# Altium integrated library Q-Resistors.IntLib: 917 symbols (part 4 of 8)
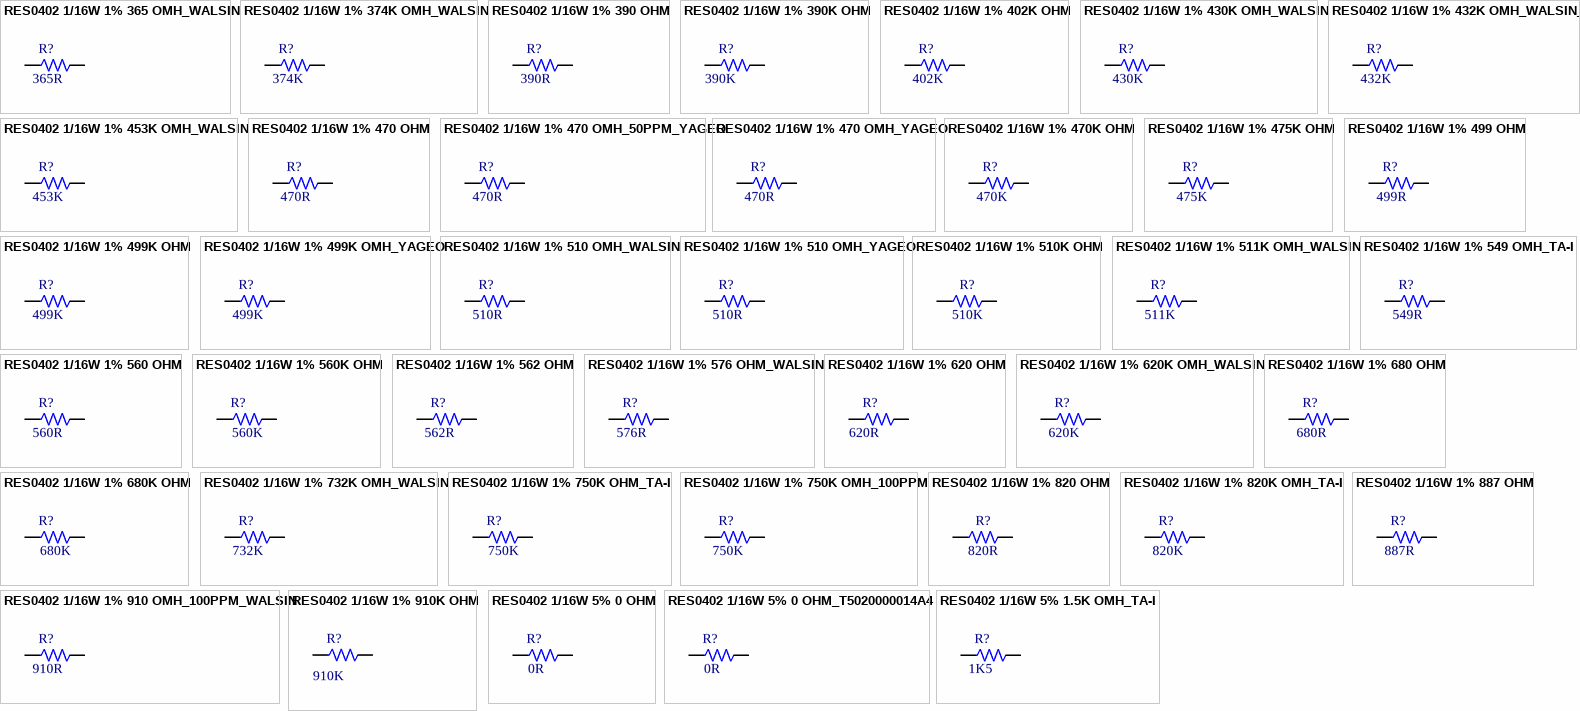
[diagram p25: symbols RES0402 1/16W 1% 365 OMH_WALSIN to RES0402 1/16W 5% 1.5K OMH_TA-I]

## RES0402 1/16W 1% 620K OMH_WALSIN
designator R?, comment value 620K  (hidden comment: T502620301399)
CHIP 620K OHM 100PPM +-1% 0402 WALS L; TOL: 1%; MFG: WALSIN (華新); Power: 1/16W; CREATE_NAME: Nathan; DIP&SMD: SMD; SAP: T502620301399; Package: 0402; MFG Part: *; Vendor Code: *; Vendor Name: *; Type: Resistor; CREATE_TIME: 25-May-2016; Customer Specific: N/A
footprint 0402-RW
pins: 1, 2

## RES0402 1/16W 1% 680 OHM
designator R?, comment value 680R  (hidden comment: QCF161240-6800)
CHIP RES  680 OHM 1/16W 1% 0402; SAP: T502680001399; CREATE_NAME: GordonL@Deftronics; DIP&SMD: SMD; Vendor Code: *; Power: 1/16W; Vendor Name: *; MFG Part: *; MFG: *; TOL: 1%; Type: Resistor; CREATE_TIME: 05-Jan-2013; PACKAGE: 0402; Customer Specific: N/A
footprint 0402-RW
pins: 1, 2

## RES0402 1/16W 1% 680K OHM
designator R?, comment value 680K  (hidden comment: QCF161240-6803)
CHIP RES 680K OHM 1% 1/16W 0402; SAP: T502680301399; CREATE_NAME: TOM@Deftronics; DIP&SMD: SMD; Package: 0402; TOL: 1%; MFG Part: *; MFG: *; Vendor Code: *; Vendor Name: *; Type: Resistor; Power: 1/16W; CREATE_TIME: 09-Jul-2014; Customer Specific: N/A
footprint 0402-RW
pins: 1, 2

## RES0402 1/16W 1% 732K OMH_WALSIN
designator R?, comment value 732K  (hidden comment: T502732301399)
CHIP 732K OHM 100PPM +-1% 0402 WALS L; MFG Part: WR04X7323FTL; TOL: 1%; MFG: WALSIN; Power: 1/16W; CREATE_NAME: Nathan; DIP&SMD: SMD; SAP: T502732301399; Package: 0402; Vendor Code: *; Vendor Name: *; Type: Resistor; CREATE_TIME: 17-Feb-2020; Customer Specific: N/A
footprint 0402-RW
pins: 1, 2

## RES0402 1/16W 1% 750K OHM_TA-I
designator R?, comment value 750K  (hidden comment: T502750301394)
CHIP 750K OHM  100PPM +-1% 0402 TA-I L; Power: 1/16W; MFG: TA-I (大毅); TOL: 1%; CREATE_NAME: Cherry; DIP&SMD: SMD; Vendor Code: *; SAP: T502750301394; Vendor Name: *; MFG Part: N/A; Type: Resistor; PACKAGE: 0402; CREATE_TIME: 24-Feb-2016; Customer Specific: N/A
footprint 0402-RW
pins: 1, 2

## RES0402 1/16W 1% 750K OMH_100PPM
designator R?, comment value 750K  (hidden comment: T502750301399)
CHIP 750K OHM 100PPM +-1% 0402 WALS L; TOL: 1%; MFG: WALSIN; Power: 1/16W; CREATE_NAME: Tom; DIP&SMD: SMD; SAP: T502750301399; Package: 0402; MFG Part: *; Vendor Code: *; Vendor Name: *; Type: Resistor; CREATE_TIME: 05-Dec-2016; Customer Specific: N/A
footprint 0402-RW
pins: 1, 2

## RES0402 1/16W 1% 820 OHM
designator R?, comment value 820R  (hidden comment: QCF161240-8200)
CHIP RES 820 OHM 1% 1/16W 0402; SAP: T502820001399; CREATE_NAME: Evan@Deftronics; DIP&SMD: SMD; Package: 0402; TOL: 1%; MFG Part: *; MFG: *; Vendor Code: *; Vendor Name: *; Type: Resistor; Power: 1/16W; CREATE_TIME: 02-Jun-2014; Customer Specific: N/A
footprint 0402-RW
pins: 1, 2

## RES0402 1/16W 1% 820K OMH_TA-I
designator R?, comment value 820K  (hidden comment: T502820301394)
CHIP 820K OHM 100PPM +-1% 0402 TA-I L; TOL: 1%; MFG: TA-I (大毅); Power: 1/16W; CREATE_NAME: Nathan; DIP&SMD: SMD; SAP: T502820301394; Package: 0402; MFG Part: *; Vendor Code: *; Vendor Name: *; Type: Resistor; CREATE_TIME: 25-May-2016; Customer Specific: N/A
footprint 0402-RW
pins: 1, 2

## RES0402 1/16W 1% 887 OHM
designator R?, comment value 887R  (hidden comment: QCF161240-8870)
CHIP RES. 887 OHM 1% 1/16W 0402; SAP: T502887001399; CREATE_NAME: GordonL@Deftronics; DIP&SMD: SMD; Vendor Code: *; Power: 1/16W; Vendor Name: *; MFG Part: *; MFG: *; TOL: 1%; Type: Resistor; CREATE_TIME: 05-Jan-2013; PACKAGE: 0402; Customer Specific: N/A
footprint 0402-RW
pins: 1, 2

## RES0402 1/16W 1% 910 OMH_100PPM_WALSIN
designator R?, comment value 910R  (hidden comment: T502910001399)
CHIP 910 OHM 100PPM +-1% 0402 WALS L; MFG Part: WR04X9100FTL; TOL: 1%; MFG: WALSIN (華新); Power: 1/16W; CREATE_NAME: Nathan; DIP&SMD: SMD; SAP: T502910001399; Package: 0402; Vendor Code: *; Vendor Name: *; Type: Resistor; CREATE_TIME: 16-Nov-2017; Customer Specific: N/A
footprint 0402-RW
pins: 1, 2

## RES0402 1/16W 1% 910K OHM
designator R?, comment value 910K  (hidden comment: T502910301399)
CHIP 910K OHM 100PPM +-1% 0402 WALS L; Power: 1/16W; MFG: WALSIN (華新); TOL: 1%; CREATE_NAME: Nathan; DIP&SMD: SMD; Vendor Code: *; SAP: T502910301399; Vendor Name: *; MFG Part: *; Type: Resistor; CREATE_TIME: 31-Oct-2017; PACKAGE: 0402; Customer Specific: N/A
footprint 0402-RW
pins: 1, 2

## RES0402 1/16W 5% 0 OHM
designator R?, comment value 0R  (hidden comment: QCF165240-0000)
CHIP RES 0 OMH 1/16W 5% 0402; SAP: T5020000014A9; MFG: WALSIN; DIP&SMD: SMD; Vendor Code: *; Power: 1/16W; Vendor Name: *; MFG Part: *; TOL: 5%; Type: Resistor; PACKAGE: 0402; Customer Specific: N/A
footprint 0402-RW
pins: 1, 2

## RES0402 1/16W 5% 0 OHM_T5020000014A4
designator R?, comment value 0R  (hidden comment: T5020000014A4)
CHIP 0 OHM 200PPM +-5% 0402 TA-I L; Power: 1/16W; MFG: TA-I (大毅/祥泰); TOL: 5%; CREATE_NAME: Cherry; DIP&SMD: SMD; Vendor Code: *; SAP: T5020000014A4; Vendor Name: *; MFG Part: *; Type: Resistor; PACKAGE: 0402; CREATE_TIME: 23-Feb-2016; Customer Specific: N/A
footprint 0402-RW
pins: 1, 2

## RES0402 1/16W 5% 1.5K OMH_TA-I
designator R?, comment value 1K5  (hidden comment: T5020152014A4)
CHIP 1.5K OHM 200PPM +-5% 0402 TA-I L; TOL: 5%; MFG: TA-I (大毅); Power: 1/16W; CREATE_NAME: Nathan; DIP&SMD: SMD; SAP: T5020152014A4; Package: 0402; MFG Part: *; Vendor Code: *; Vendor Name: *; Type: Resistor; CREATE_TIME: 25-May-2016; Customer Specific: N/A
footprint 0402-RW
pins: 1, 2

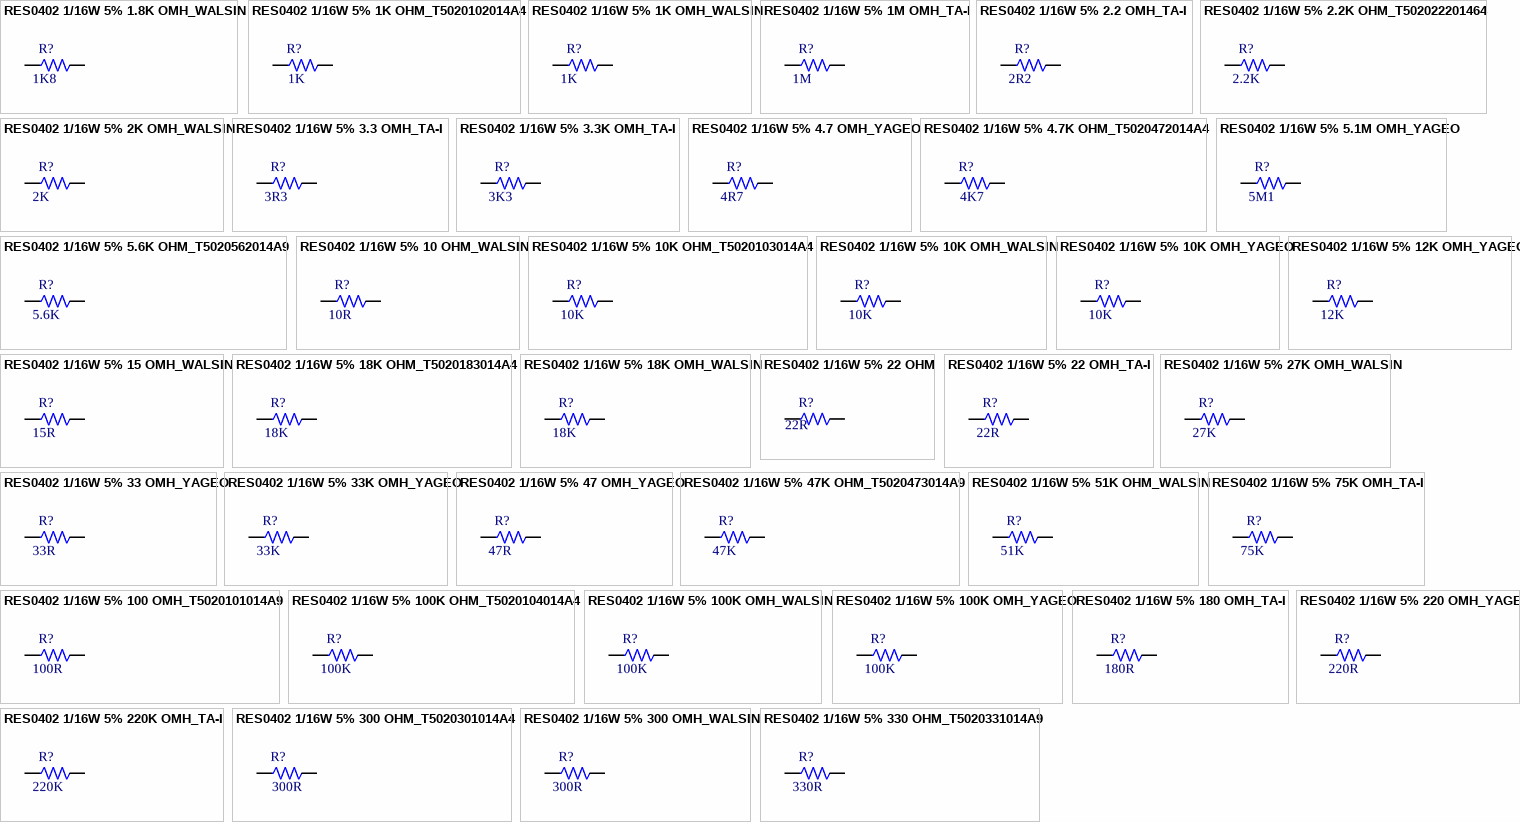
[diagram p10: symbols RES0402 1/16W 5% 1.8K OMH_WALSIN to RES0402 1/16W 5% 330 OHM_T5020331014A9]

## RES0402 1/16W 5% 1.8K OMH_WALSIN
designator R?, comment value 1K8  (hidden comment: T502018201499)
CHIP 1.8K OHM  100PPM +-5% 0402 WALS L; TOL: 5%; MFG: WALSIN (華新); Power: 1/16W; CREATE_NAME: Nathan; DIP&SMD: SMD; SAP: T502018201499; Package: 0402; MFG Part: *; Vendor Code: *; Vendor Name: *; Type: Resistor; CREATE_TIME: 25-May-2016; Customer Specific: N/A
footprint 0402-RW
pins: 1, 2

## RES0402 1/16W 5% 1K OHM_T5020102014A4
designator R?, comment value 1K  (hidden comment: T5020102014A4)
CHIP 1K OHM 200PPM +-5% 0402 TA-I L; Power: 1/16W; MFG: TA-I (大毅/祥泰); TOL: 5%; CREATE_NAME: Cherry; DIP&SMD: SMD; Vendor Code: *; SAP: T5020102014A4; Vendor Name: *; MFG Part: N/A; Type: Resistor; PACKAGE: 0402; CREATE_TIME: 23-Feb-2016; Customer Specific: N/A
footprint 0402-RW
pins: 1, 2

## RES0402 1/16W 5% 1K OMH_WALSIN
designator R?, comment value 1K  (hidden comment: T5020102014A9)
CHIP 1K OHM 200PPM +-5% 0402 WALS L; TOL: 5%; MFG: WALSIN (華新); Power: 1/16W; CREATE_NAME: Nathan; DIP&SMD: SMD; SAP: T5020102014A9; Package: 0402; MFG Part: *; Vendor Code: *; Vendor Name: *; Type: Resistor; CREATE_TIME: 27-Sep-2017; Customer Specific: N/A
footprint 0402-RW
pins: 1, 2

## RES0402 1/16W 5% 1M OMH_TA-I
designator R?, comment value 1M  (hidden comment: T5020105014A4)
CHIP 1M OHM 200PPM +-5% 0402 TA-I L; TOL: 5%; MFG: TA-I (大毅); Power: 1/16W; CREATE_NAME: Nathan; DIP&SMD: SMD; SAP: T5020105014A4; Package: 0402; MFG Part: *; Vendor Code: *; Vendor Name: *; Type: Resistor; CREATE_TIME: 25-May-2016; Customer Specific: N/A
footprint 0402-RW
pins: 1, 2

## RES0402 1/16W 5% 2.2 OMH_TA-I
designator R?, comment value 2R2  (hidden comment: T502022A014A4)
CHIP 2.2 OHM   200PPM +-5% 0402 TA-I L; TOL: 5%; MFG: TA-I (大毅); Power: 1/16W; CREATE_NAME: Nathan; DIP&SMD: SMD; SAP: T502022A014A4; Package: 0402; MFG Part: *; Vendor Code: *; Vendor Name: *; Type: Resistor; CREATE_TIME: 25-May-2016; Customer Specific: N/A
footprint 0402-RW
pins: 1, 2

## RES0402 1/16W 5% 2.2K OHM_T502022201464
designator R?, comment value 2.2K  (hidden comment: T502022201464)
CHIP 2.2K OHM 250PPM +-5% 0402 TA-I L; MFG Part: RM04JTN222; TOL: 5%; Power: 1/16W; CREATE_NAME: Tom; DIP&SMD: SMD; SAP: T502022201464; Package: 0402; MFG: TA-I; Vendor Code: *; Vendor Name: *; Type: Resistor; CREATE_TIME: 12-Apr-2019; Customer Specific: N/A
footprint 0402-RW
pins: 1, 2

## RES0402 1/16W 5% 2K OMH_WALSIN
designator R?, comment value 2K  (hidden comment: T5020202014A9)
CHIP 2K OHM 200PPM +-5% 0402 WALS L; MFG Part: WR04X202 JTL; TOL: 5%; MFG: WALSIN; Power: 1/16W; CREATE_NAME: Nathan; DIP&SMD: SMD; SAP: T5020202014A9; Package: 0402; Vendor Code: *; Vendor Name: *; Type: Resistor; CREATE_TIME: 08-Jan-2018; Customer Specific: N/A
footprint 0402-RW
pins: 1, 2

## RES0402 1/16W 5% 3.3 OMH_TA-I
designator R?, comment value 3R3  (hidden comment: T502033A014A4)
CHIP 3.3 OHM   200PPM +-5% 0402 TA-I L; TOL: 5%; MFG: TA-I (大毅); Power: 1/16W; CREATE_NAME: Nathan; DIP&SMD: SMD; SAP: T502033A014A4; Package: 0402; MFG Part: *; Vendor Code: *; Vendor Name: *; Type: Resistor; CREATE_TIME: 25-May-2016; Customer Specific: N/A
footprint 0402-RW
pins: 1, 2

## RES0402 1/16W 5% 3.3K OMH_TA-I
designator R?, comment value 3K3  (hidden comment: T5020332014A4)
CHIP 3.3K OHM 200PPM +-5% 0402 TA-I L; TOL: 5%; MFG: TA-I (大毅); Power: 1/16W; CREATE_NAME: Nathan; DIP&SMD: SMD; SAP: T5020332014A4; Package: 0402; MFG Part: *; Vendor Code: *; Vendor Name: *; Type: Resistor; CREATE_TIME: 25-May-2016; Customer Specific: N/A
footprint 0402-RW
pins: 1, 2

## RES0402 1/16W 5% 4.7 OMH_YAGEO
designator R?, comment value 4R7  (hidden comment: T502047A014A1)
CHIP 4.7 OHM   200PPM +-5% 0402 YAGE L; TOL: 5%; MFG: YAGEO (國巨); Power: 1/16W; CREATE_NAME: Nathan; DIP&SMD: SMD; Customer Specific: Q Project; SAP: T502047A014A1; Package: 0402; MFG Part: *; Vendor Code: *; Vendor Name: *; Type: Resistor; CREATE_TIME: 23-May-2016
footprint 0402-RW
pins: 1, 2

## RES0402 1/16W 5% 4.7K OHM_T5020472014A4
designator R?, comment value 4K7  (hidden comment: T5020472014A4)
CHIP 4.7K OHM 200PPM +-5% 0402 TA-I L; Power: 1/16W; MFG: TA-I (大毅/祥泰); TOL: 5%; CREATE_NAME: Cherry; DIP&SMD: SMD; Vendor Code: *; SAP: T5020472014A4; Vendor Name: *; MFG Part: N/A; Type: Resistor; PACKAGE: 0402; CREATE_TIME: 24-Feb-2016; Customer Specific: N/A
footprint 0402-RW
pins: 1, 2

## RES0402 1/16W 5% 5.1M OMH_YAGEO
designator R?  value 5M1  (hidden comment: *)
CHIP 5.1M OHM    100PPM +-5% 0402 YAGE L; MFG Part: RC0402JR-075M1L; TOL: 5%; MFG: YAGEO (國巨); Power: 1/16W; CREATE_NAME: Nathan; DIP&SMD: SMD; SAP: *; Package: 0402; Vendor Code: *; Vendor Name: *; Type: Resistor; CREATE_TIME: 13-Oct-2020; Customer Specific: N/A
footprint 0402-RW
pins: 1, 2

## RES0402 1/16W 5% 5.6K OHM_T5020562014A9
designator R?, comment value 5.6K  (hidden comment: T5020562014A9)
CHIP 5.6K OHM 200PPM +-5% 0402 WALS L; MFG Part: WR04X562 JTR; TOL: 5%; MFG: WALSIN; Power: 1/16W; CREATE_NAME: Tom; DIP&SMD: SMD; SAP: T5020562014A9; Package: 0402; Vendor Code: *; Vendor Name: *; Type: Resistor; CREATE_TIME: 12-Apr-2019; Customer Specific: N/A
footprint 0402-RW
pins: 1, 2

## RES0402 1/16W 5% 10 OHM_WALSIN
designator R?, comment value 10R  (hidden comment: T5020100014A9)
CHIP 10 OHM    200PPM +-5% 0402 WALS L; MFG Part: WR04X100JAL; Power: 1/16W; MFG: WALSIN; TOL: 5%; CREATE_NAME: Nathan; DIP&SMD: SMD; Vendor Code: *; SAP: T5020100014A9; Vendor Name: *; Type: Resistor; PACKAGE: 0402; CREATE_TIME: 08-Jan-2018; Customer Specific: N/A
footprint 0402-RW
pins: 1, 2

## RES0402 1/16W 5% 10K OHM_T5020103014A4
designator R?, comment value 10K  (hidden comment: T5020103014A4)
CHIP 10K OHM 200PPM +-5% 0402 TA-I L; Power: 1/16W; MFG: TA-I (大毅/祥泰); TOL: 5%; CREATE_NAME: Cherry; DIP&SMD: SMD; Vendor Code: *; SAP: T5020103014A4; Vendor Name: *; MFG Part: N/A; Type: Resistor; PACKAGE: 0402; CREATE_TIME: 23-Feb-2016; Customer Specific: N/A
footprint 0402-RW
pins: 1, 2

## RES0402 1/16W 5% 10K OMH_WALSIN
designator R?, comment value 10K  (hidden comment: T5020103014A9)
CHIP 10K OHM   200PPM +-5% 0402 WALS L; TOL: 5%; MFG: WALSIN (華新); Power: 1/16W; CREATE_NAME: Nathan; DIP&SMD: SMD; SAP: T5020103014A9; Package: 0402; MFG Part: *; Vendor Code: *; Vendor Name: *; Type: Resistor; CREATE_TIME: 17-Aug-2017; Customer Specific: N/A
footprint 0402-RW
pins: 1, 2

## RES0402 1/16W 5% 10K OMH_YAGEO
designator R?, comment value 10K  (hidden comment: T5020103014A1)
CHIP 10K OHM   100PPM +-5% 0402 YAGE L; TOL: 5%; MFG: YAGEO (國巨); Power: 1/16W; CREATE_NAME: Nathan; DIP&SMD: SMD; SAP: T5020103014A1; Package: 0402; MFG Part: *; Vendor Code: *; Vendor Name: *; Type: Resistor; CREATE_TIME: 23-May-2016; Customer Specific: N/A
footprint 0402-RW
pins: 1, 2

## RES0402 1/16W 5% 12K OMH_YAGEO
designator R?, comment value 12K  (hidden comment: T502012301491)
CHIP 12K OHM   100PPM +-5% 0402 YAGE L; TOL: 5%; MFG: YAGEO (國巨); Power: 1/16W; CREATE_NAME: Nathan; DIP&SMD: SMD; SAP: T502012301491; Package: 0402; MFG Part: *; Vendor Code: *; Vendor Name: *; Type: Resistor; CREATE_TIME: 23-May-2016; Customer Specific: N/A
footprint 0402-RW
pins: 1, 2

## RES0402 1/16W 5% 15 OMH_WALSIN
designator R?, comment value 15R  (hidden comment: T502015001499)
CHIP 15 OHM    100PPM +-5% 0402 WALS L; TOL: 5%; MFG: WALSIN (華新); Power: 1/16W; CREATE_NAME: Nathan; DIP&SMD: SMD; SAP: T502015001499; Package: 0402; MFG Part: *; Vendor Code: *; Vendor Name: *; Type: Resistor; CREATE_TIME: 25-May-2016; Customer Specific: N/A
footprint 0402-RW
pins: 1, 2

## RES0402 1/16W 5% 18K OHM_T5020183014A4
designator R?, comment value 18K  (hidden comment: T5020183014A4)
CHIP 18K OHM 200PPM +-5% 0402 TA-I L; MFG Part: RM04JTN183; TOL: 5%; Power: 1/16W; CREATE_NAME: Tom; DIP&SMD: SMD; SAP: T5020183014A4; Package: 0402; MFG: TA-I; Vendor Code: *; Vendor Name: *; Type: Resistor; CREATE_TIME: 12-Apr-2019; Customer Specific: N/A
footprint 0402-RW
pins: 1, 2

## RES0402 1/16W 5% 18K OMH_WALSIN
designator R?, comment value 18K  (hidden comment: T502018301499)
CHIP 18K OHM   100PPM +-5% 0402 WALS L; TOL: 5%; MFG: WALSIN (華新); Power: 1/16W; CREATE_NAME: Nathan; DIP&SMD: SMD; SAP: T502018301499; Package: 0402; MFG Part: *; Vendor Code: *; Vendor Name: *; Type: Resistor; CREATE_TIME: 25-May-2016; Customer Specific: N/A
footprint 0402-RW
pins: 1, 2

## RES0402 1/16W 5% 22 OHM
designator R?, comment value 22R  (hidden comment: T502022001499)
CHIP 22 OHM  200PPM +-5% 0402 WALS L; MFG Part: WR04X220JTL; Power: 1/16W; MFG: WALSIN; TOL: 5%; CREATE_NAME: Nathan; DIP&SMD: SMD; Vendor Code: *; SAP: T502022001499; Vendor Name: *; Type: Resistor; PACKAGE: 0402; CREATE_TIME: 18-Aug-2017; Customer Specific: N/A
footprint 0402-RW
pins: 1, 2

## RES0402 1/16W 5% 22 OMH_TA-I
designator R?, comment value 22R  (hidden comment: T5020220014A4)
CHIP 22 OHM 200PPM +-5% 0402 TA-I L; TOL: 5%; MFG: TA-I (大毅); Power: 1/16W; CREATE_NAME: Nathan; DIP&SMD: SMD; SAP: T5020220014A4; Package: 0402; MFG Part: *; Vendor Code: *; Vendor Name: *; Type: Resistor; CREATE_TIME: 25-May-2016; Customer Specific: N/A
footprint 0402-RW
pins: 1, 2

## RES0402 1/16W 5% 27K OMH_WALSIN
designator R?, comment value 27K  (hidden comment: T502027301499)
CHIP 27K OHM   100PPM +-5% 0402 WALS L; TOL: 5%; MFG: WALSIN (華新); Power: 1/16W; CREATE_NAME: Nathan; DIP&SMD: SMD; SAP: T502027301499; Package: 0402; MFG Part: *; Vendor Code: *; Vendor Name: *; Type: Resistor; CREATE_TIME: 25-May-2016; Customer Specific: N/A
footprint 0402-RW
pins: 1, 2

## RES0402 1/16W 5% 33 OMH_YAGEO
designator R?, comment value 33R  (hidden comment: T5020330014A1)
CHIP 33 OHM    200PPM +-5% 0402 YAGE L; TOL: 5%; MFG: YAGEO (國巨); Power: 1/16W; CREATE_NAME: Nathan; DIP&SMD: SMD; SAP: T5020330014A1; Package: 0402; MFG Part: *; Vendor Code: *; Vendor Name: *; Type: Resistor; CREATE_TIME: 23-May-2016; Customer Specific: N/A
footprint 0402-RW
pins: 1, 2

## RES0402 1/16W 5% 33K OMH_YAGEO
designator R?, comment value 33K  (hidden comment: T5020333014A1)
CHIP 33K OHM   200PPM +-5% 0402 YAGE L; TOL: 5%; MFG: YAGEO (國巨); Power: 1/16W; CREATE_NAME: Nathan; DIP&SMD: SMD; SAP: T5020333014A1; Package: 0402; MFG Part: *; Vendor Code: *; Vendor Name: *; Type: Resistor; CREATE_TIME: 23-May-2016; Customer Specific: N/A
footprint 0402-RW
pins: 1, 2

## RES0402 1/16W 5% 47 OMH_YAGEO
designator R?, comment value 47R  (hidden comment: T5020470014A1)
CHIP 47 OHM    200PPM +-5% 0402 YAGE L; TOL: 5%; MFG: YAGEO (國巨); Power: 1/16W; CREATE_NAME: Nathan; DIP&SMD: SMD; SAP: T5020470014A1; Package: 0402; MFG Part: *; Vendor Code: *; Vendor Name: *; Type: Resistor; CREATE_TIME: 23-May-2016; Customer Specific: N/A
footprint 0402-RW
pins: 1, 2

## RES0402 1/16W 5% 47K OHM_T5020473014A9
designator R?, comment value 47K  (hidden comment: T5020473014A9)
CHIP 47K OHM 200PPM +-5% 0402 WALS L; MFG Part: WR04X473 JTL; TOL: 5%; MFG: TA-I; Power: 1/16W; CREATE_NAME: Tom; DIP&SMD: SMD; SAP: T5020473014A9; Package: 0402; Vendor Code: *; Vendor Name: *; Type: Resistor; CREATE_TIME: 12-Apr-2019; Customer Specific: N/A
footprint 0402-RW
pins: 1, 2

## RES0402 1/16W 5% 51K OHM_WALSIN
designator R?, comment value 51K  (hidden comment: T502051301499)
CHIP 51K OHM  100PPM +-5% 0402 WALS L; MFG Part: WR04X513 JTL; TOL: 5%; MFG: WALSIN (華新); Power: 1/16W; CREATE_NAME: Nathan; DIP&SMD: SMD; SAP: T502051301499; Package: 0402; Vendor Code: *; Vendor Name: *; Type: Resistor; CREATE_TIME: 25-Jun-2019; Customer Specific: N/A
footprint 0402-RW
pins: 1, 2

## RES0402 1/16W 5% 75K OMH_TA-I
designator R?, comment value 75K  (hidden comment: T5020753014A4)
CHIP 75K OHM   200PPM +-5% 0402 TA-I L; TOL: 5%; MFG: TA-I (大毅); Power: 1/16W; CREATE_NAME: Nathan; DIP&SMD: SMD; SAP: T5020753014A4; Package: 0402; MFG Part: *; Vendor Code: *; Vendor Name: *; Type: Resistor; CREATE_TIME: 25-May-2016; Customer Specific: N/A
footprint 0402-RW
pins: 1, 2

## RES0402 1/16W 5% 100 OMH_T5020101014A9
designator R?, comment value 100R  (hidden comment: T5020101014A9)
CHIP 100 OHM 200PPM +-5% 0402 WALS L; MFG Part: WR04X101 JTL; TOL: 5%; MFG: WALSIN; Power: 1/16W; CREATE_NAME: Tom; DIP&SMD: SMD; SAP: T5020101014A9; Package: 0402; Vendor Code: *; Vendor Name: *; Type: Resistor; CREATE_TIME: 12-Apr-2019; Customer Specific: N/A
footprint 0402-RW
pins: 1, 2

## RES0402 1/16W 5% 100K OHM_T5020104014A4
designator R?, comment value 100K  (hidden comment: T5020104014A4)
CHIP 100K OHM 200PPM +-5% 0402 TA-I L; MFG Part: RM04JTN104; TOL: 5%; Power: 1/16W; CREATE_NAME: Tom; DIP&SMD: SMD; SAP: T5020104014A4; Package: 0402; MFG: TA-I; Vendor Code: *; Vendor Name: *; Type: Resistor; CREATE_TIME: 12-Apr-2019; Customer Specific: N/A
footprint 0402-RW
pins: 1, 2

## RES0402 1/16W 5% 100K OMH_WALSIN
designator R?, comment value 100K  (hidden comment: T5020104014A9)
CHIP 100K OHM  200PPM +-5% 0402 WALS L; MFG Part: WR04X1003JAL; TOL: 5%; MFG: WALSIN; Power: 1/16W; CREATE_NAME: Nathan; DIP&SMD: SMD; SAP: T5020104014A9; Package: 0402; Vendor Code: *; Vendor Name: *; Type: Resistor; CREATE_TIME: 08-Jan-2018; Customer Specific: N/A
footprint 0402-RW
pins: 1, 2

## RES0402 1/16W 5% 100K OMH_YAGEO
designator R?, comment value 100K  (hidden comment: T5020104014A1)
CHIP 100K OHM  200PPM +-5% 0402 YAGE L; TOL: 5%; MFG: YAGEO (國巨); Power: 1/16W; CREATE_NAME: Nathan; DIP&SMD: SMD; SAP: T5020104014A1; Package: 0402; MFG Part: *; Vendor Code: *; Vendor Name: *; Type: Resistor; CREATE_TIME: 23-May-2016; Customer Specific: N/A
footprint 0402-RW
pins: 1, 2

## RES0402 1/16W 5% 180 OMH_TA-I
designator R?, comment value 180R  (hidden comment: T5020181014A4)
CHIP 180 OHM 200PPM +-5% 0402 TA-I L; TOL: 5%; MFG: TA-I (大毅); Power: 1/16W; CREATE_NAME: Nathan; DIP&SMD: SMD; SAP: T5020181014A4; Package: 0402; MFG Part: *; Vendor Code: *; Vendor Name: *; Type: Resistor; CREATE_TIME: 25-May-2016; Customer Specific: N/A
footprint 0402-RW
pins: 1, 2

## RES0402 1/16W 5% 220 OMH_YAGEO
designator R?, comment value 220R  (hidden comment: T502022101491)
CHIP 220 OHM   100PPM +-5% 0402 YAGE L; TOL: 5%; MFG: YAGEO (國巨); Power: 1/16W; CREATE_NAME: Nathan; DIP&SMD: SMD; SAP: T502022101491; Package: 0402; MFG Part: *; Vendor Code: *; Vendor Name: *; Type: Resistor; CREATE_TIME: 23-May-2016; Customer Specific: N/A
footprint 0402-RW
pins: 1, 2

## RES0402 1/16W 5% 220K OMH_TA-I
designator R?, comment value 220K  (hidden comment: T5020224014A4)
CHIP 220K OHM 200PPM +-5% 0402 TA-I L; TOL: 5%; MFG: TA-I (大毅); Power: 1/16W; CREATE_NAME: Nathan; DIP&SMD: SMD; SAP: T5020224014A4; Package: 0402; MFG Part: *; Vendor Code: *; Vendor Name: *; Type: Resistor; CREATE_TIME: 25-May-2016; Customer Specific: N/A
footprint 0402-RW
pins: 1, 2

## RES0402 1/16W 5% 300 OHM_T5020301014A4
designator R?, comment value 300R  (hidden comment: T5020301014A4)
CHIP 300 OHM 200PPM +-5% 0402 TA-I L; Power: 1/16W; MFG: TA-I (大毅/祥泰); TOL: 5%; CREATE_NAME: Cherry; DIP&SMD: SMD; Vendor Code: *; SAP: T5020301014A4; Vendor Name: *; MFG Part: N/A; Type: Resistor; PACKAGE: 0402; CREATE_TIME: 23-Feb-2016; Customer Specific: N/A
footprint 0402-RW
pins: 1, 2

## RES0402 1/16W 5% 300 OMH_WALSIN
designator R?, comment value 300R  (hidden comment: T502030101499)
CHIP 300 OHM   100PPM +-5% 0402 WALS L; TOL: 5%; MFG: WALSIN (華新); Power: 1/16W; CREATE_NAME: Nathan; DIP&SMD: SMD; SAP: T502030101499; Package: 0402; MFG Part: *; Vendor Code: *; Vendor Name: *; Type: Resistor; CREATE_TIME: 25-May-2016; Customer Specific: N/A
footprint 0402-RW
pins: 1, 2

## RES0402 1/16W 5% 330 OHM_T5020331014A9
designator R?, comment value 330R  (hidden comment: T5020331014A9)
CHIP 330 OHM 200PPM +-5% 0402 WALS L; MFG Part: WR04X331 JTL; TOL: 5%; MFG: TA-I; Power: 1/16W; CREATE_NAME: Tom; DIP&SMD: SMD; SAP: T5020331014A9; Package: 0402; Vendor Code: *; Vendor Name: *; Type: Resistor; CREATE_TIME: 12-Apr-2019; Customer Specific: N/A
footprint 0402-RW
pins: 1, 2

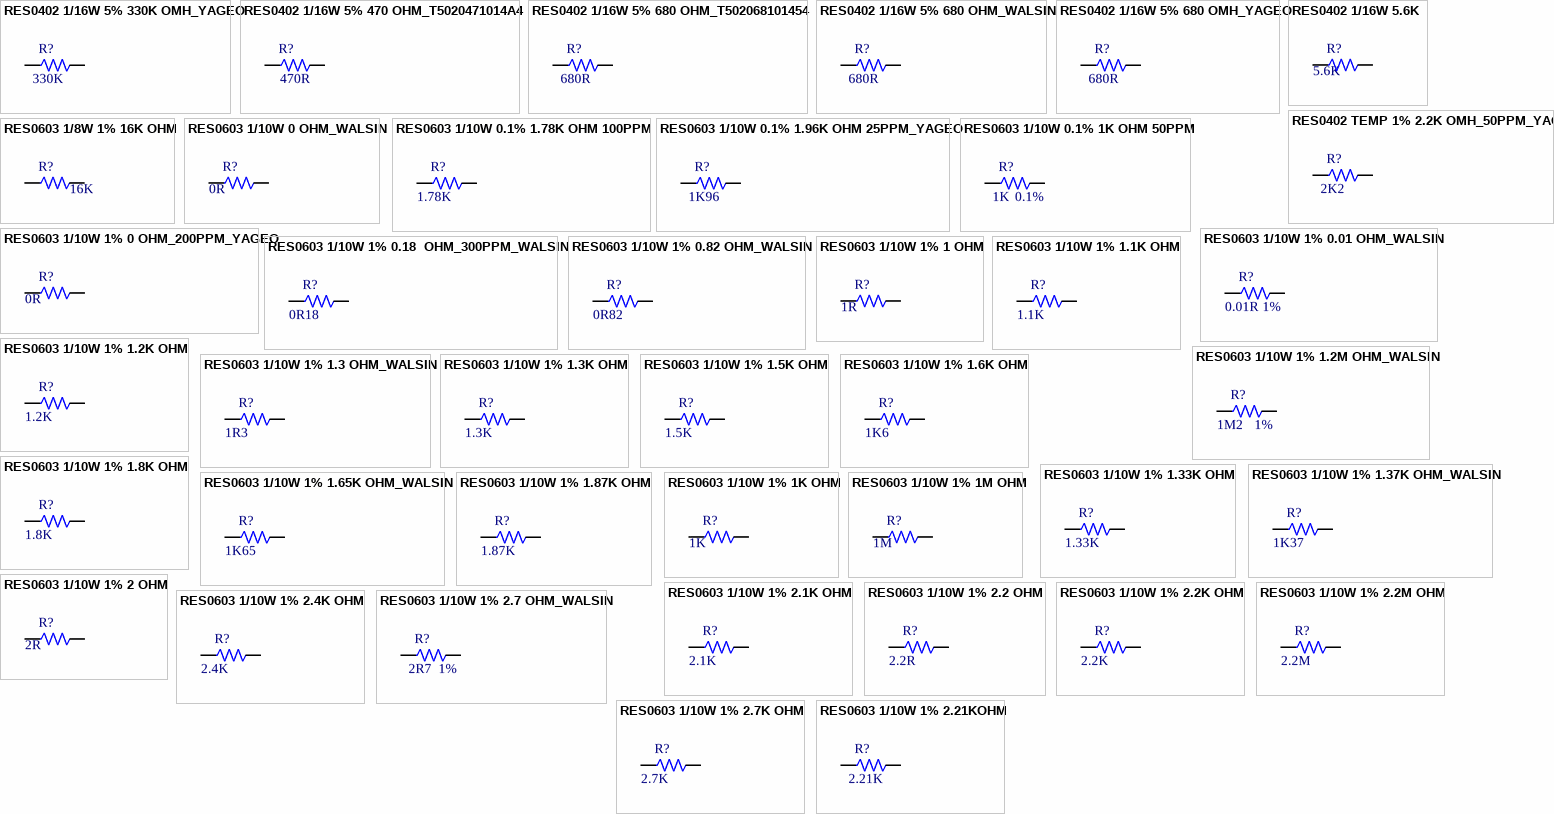
[diagram p11: symbols RES0402 1/16W 5% 330K OMH_YAGEO to RES0603 1/10W 1% 2.21KOHM]

## RES0402 1/16W 5% 330K OMH_YAGEO
designator R?, comment value 330K  (hidden comment: T5020334014A1)
CHIP 330K OHM  200PPM +-5% 0402 YAGE L; TOL: 5%; MFG: YAGEO (國巨); Power: 1/16W; CREATE_NAME: Nathan; DIP&SMD: SMD; SAP: T5020334014A1; Package: 0402; MFG Part: *; Vendor Code: *; Vendor Name: *; Type: Resistor; CREATE_TIME: 23-May-2016; Customer Specific: N/A
footprint 0402-RW
pins: 1, 2

## RES0402 1/16W 5% 470 OHM_T5020471014A4
designator R?, comment value 470R  (hidden comment: T5020471014A4)
CHIP 470 OHM   200PPM +-5% 0402 TA-I L; Power: 1/16W; MFG: TA-I (大毅); TOL: 5%; CREATE_NAME: Cherry; DIP&SMD: SMD; Vendor Code: *; SAP: T5020471014A4; Vendor Name: *; MFG Part: N/A; Type: Resistor; PACKAGE: 0402; CREATE_TIME: 24-Feb-2016; Customer Specific: N/A
footprint 0402-RW
pins: 1, 2

## RES0402 1/16W 5% 680 OHM_T502068101454
designator R?, comment value 680R  (hidden comment: T502068101454)
CHIP 680 OHM 300PPM +-5% 0402 TA-I L; MFG Part: RM04JTN681; TOL: 5%; Power: 1/16W; CREATE_NAME: Tom; DIP&SMD: SMD; SAP: T502068101454; Package: 0402; MFG: TA-I; Vendor Code: *; Vendor Name: *; Type: Resistor; CREATE_TIME: 12-Apr-2019; Customer Specific: N/A
footprint 0402-RW
pins: 1, 2

## RES0402 1/16W 5% 680 OHM_WALSIN
designator R?, comment value 680R  (hidden comment: T502068101499)
CHIP 680 OHM   100PPM +-5% 0402 WALS L; MFG Part: WR04X681JAL; Power: 1/16W; MFG: WALSIN (華新); TOL: 5%; CREATE_NAME: Nathan Han; DIP&SMD: SMD; Vendor Code: *; SAP: T502068101499; Vendor Name: *; Type: Resistor; PACKAGE: 0402; CREATE_TIME: 03-Jan-2018; Customer Specific: N/A
footprint 0402-RW
pins: 1, 2

## RES0402 1/16W 5% 680 OMH_YAGEO
designator R?, comment value 680R  (hidden comment: T502068101491)
CHIP 680 OHM   100PPM +-5% 0402 YAGE L; TOL: 5%; MFG: YAGEO (國巨); Power: 1/16W; CREATE_NAME: Nathan; DIP&SMD: SMD; SAP: T502068101491; Package: 0402; MFG Part: *; Vendor Code: *; Vendor Name: *; Type: Resistor; CREATE_TIME: 23-May-2016; Customer Specific: N/A
footprint 0402-RW
pins: 1, 2

## RES0402 1/16W 5.6K
designator R?, comment value 5.6K  (hidden comment: T502560101399)
CHIP RES 5.6K OHM 1/16W; CREATE_NAME: Tom; DIP&SMD: SMD; Vendor Code: *; SAP: T502560101399; Power: 1/16W; Vendor Name: *; MFG Part: *; MFG: *; TOL: *; Type: Resistor; CREATE_TIME: 09-Sep-2015; PACKAGE: 0402; Customer Specific: N/A
footprint 0402-RW
pins: 1, 2

## RES0402 TEMP 1% 2.2K OMH_50PPM_YAGEO
designator R?, comment value 2K2  (hidden comment: T501220101321)
TEMP-CHIP 2.2K OHM  50PPM +-1% 0402 YAGE; TOL: 1%; MFG: YAGEO (國巨); CREATE_NAME: Nathan; DIP&SMD: SMD; SAP: T501220101321; Package: 0402; MFG Part: *; Vendor Code: *; Vendor Name: *; Type: Resistor; Power: *; CREATE_TIME: 23-May-2016; Customer Specific: N/A
footprint 0402-RW
pins: 1, 2

## RES0603 1/8W 1% 16K OHM
designator R?, comment value 16K  (hidden comment: QCF011030-1602)
CHIP 16K OHM   100PPM +-1% 0603 WALSIN; SAP: T502160202399; TOL: 1%; Power: 1/8W; CREATE_NAME: Nathan; DIP&SMD: SMD; Package: 0603; MFG Part: *; MFG: WALSIN; Vendor Code: *; Vendor Name: *; Type: Resistor; CREATE_TIME: 24-Aug-2015; Customer Specific: N/A
footprint 0603-RW
footprint 0603-SW
pins: 1, 2

## RES0603 1/10W 0 OHM_WALSIN
designator R?, comment value 0R  (hidden comment: T502000002009)
CHIP 0 OHM 0 OHM 0 OHM 0603 WALSIN L; MFG Part: WR06X000PTL; Power: 1/10W; MFG: WALSIN (華新); DIP&SMD: SMD; Vendor Code: *; SAP: T502000002009; Vendor Name: *; TOL: *; Type: Resistor; PACKAGE: 0603; Customer Specific: N/A
footprint 0603-RW
footprint 0603-SW
pins: 1, 2

## RES0603 1/10W 0.1% 1.78K OHM 100PPM
designator R?, comment value 1.78K  (hidden comment: T501178102199)
CHIP 1.78K OHM 100PPM +-0.1% 0603 WALS L; MFG Part: WF06H1781BTL; Power: 1/10W; MFG: WALSIN; TOL: 0.1%; CREATE_NAME: Tom; DIP&SMD: SMD; Vendor Code: *; SAP: T501178102199; Vendor Name: *; Type: Resistor; CREATE_TIME: 27-Jun-2018; PACKAGE: 0603; Customer Specific: N/A
footprint 0603-RW
footprint 0603-SW
pins: 1, 2

## RES0603 1/10W 0.1% 1.96K OHM 25PPM_YAGEO
designator R?  value 1K96  (hidden comment: *)
CHIP 1.96K OHM 25PPM +-1% 0603 YAGEO; Power: 0.1W; MFG: WALSIN; CREATE_NAME: Nathan; TOL: +-0.11%; DIP&SMD: SMD; Vendor Code: *; SAP: *; Vendor Name: *; MFG Part: *; Type: Resistor; CREATE_TIME: 20-Aug-2020; PACKAGE: 0603; Customer Specific: N/A
footprint 0603-RW
footprint 0603-SW
pins: 1, 2

## RES0603 1/10W 0.1% 1K OHM 50PPM
designator R?, comment value 1K  TOL: 0.1%  (hidden comment: T501100102129)
CHIP 1K OHM 50PPM +-0.1% 0603 WALS G; Power: 1/10W; CREATE_NAME: Tom; DIP&SMD: SMD; Vendor Code: *; SAP: T501100102129; Vendor Name: *; MFG: *; MFG Part: *; Type: Resistor; CREATE_TIME: 15-Sep-2015; PACKAGE: 0603; Customer Specific: N/A
footprint 0603-RW
footprint 0603-SW
pins: 1, 2

## RES0603 1/10W 1% 0 OHM_200PPM_YAGEO
designator R?, comment value 0R  (hidden comment: T5020000023A1)
CHIP 0 OHM 200PPM +-1% 0603 YAGE L; Power: 1/10W; MFG: YAGEO (國巨); TOL: 1%; CREATE_NAME: Nathan; DIP&SMD: SMD; Vendor Code: *; SAP: T5020000023A1; Vendor Name: *; MFG Part: *; Type: Resistor; PACKAGE: 0603; CREATE_TIME: 03-July-2016; Customer Specific: N/A
footprint 0603-RW
footprint 0603-SW
pins: 1, 2

## RES0603 1/10W 1% 0.01 OHM_WALSIN
designator R?, comment value 0.01R  TOL: 1%  (hidden comment: T502100D02379)
CHIP 0.01 OHM 350PPM +-1% 0603 WALS L; MFG Part: WW06CR010FTL; Power: 1/10W; MFG: WALSIN; CREATE_NAME: Nathan; DIP&SMD: SMD; Vendor Code: *; SAP: T502100D02379; Vendor Name: *; Type: Resistor; CREATE_TIME: 09-Mar-2020; PACKAGE: 0603; Customer Specific: N/A
footprint 0603-RW
footprint 0603-SW
pins: 1, 2

## RES0603 1/10W 1% 0.18  OHM_300PPM_WALSIN
designator R?, comment value 0R18  (hidden comment: T502180C02359)
CHIP 0.18 OHM  300PPM +-1% 0603 WALS L; MFG Part: WW06XR18FTL; Power: 1/10W; MFG: WALSIN (華新); TOL: 1%; CREATE_NAME: Nathan; DIP&SMD: SMD; Vendor Code: *; SAP: T502180C02359; Vendor Name: *; Type: Resistor; PACKAGE: 0603; CREATE_TIME: 03-July-2016; Customer Specific: N/A
footprint 0603-RW
footprint 0603-SW
pins: 1, 2

## RES0603 1/10W 1% 0.82 OHM_WALSIN
designator R?, comment value 0R82  (hidden comment: T502820C02399)
CHIP 0.82 OHM 100PPM +-1% 0603 WALS L; MFG Part: WW06XR820FTL; Power: 1/10W; MFG: WALSIN (華新); TOL: 1%; CREATE_NAME: Nathan; DIP&SMD: SMD; Vendor Code: *; SAP: T502820C02399; Vendor Name: *; Type: Resistor; PACKAGE: 0603; CREATE_TIME: 11-Apr-2017; Customer Specific: N/A
footprint 0603-RW
footprint 0603-SW
pins: 1, 2

## RES0603 1/10W 1% 1 OHM
designator R?, comment value 1R  (hidden comment: QCF011030-1008)
CHIP RES 1 OHM 1/10W  1% 0603; Vendor Code: 10010262; SAP: T502100B02399; Vendor Name: 东莞市晴远电子有限公司; DIP&SMD: SMD; Power: 1/10W; MFG: *; MFG Part: *; TOL: 1%; Type: Resistor; PACKAGE: 0603; Customer Specific: N/A
footprint 0603-RW
footprint 0603-SW
pins: 1, 2

## RES0603 1/10W 1% 1.1K OHM
designator R?, comment value 1.1K  (hidden comment: QCF011030-1101)
CHIP RES 1.1K OHM 1% 1/10W 0603; SAP: T502110102399; CREATE_NAME: GordonL@Deftronics; DIP&SMD: SMD; MFG Part: *; Power: 1/10W; MFG: *; Vendor Code: *; Vendor Name: *; TOL: 1%; Type: Resistor; CREATE_TIME: 25-SEP-2013; PACKAGE: 0603; Customer Specific: N/A
footprint 0603-RW
footprint 0603-SW
pins: 1, 2

## RES0603 1/10W 1% 1.2K OHM
designator R?, comment value 1.2K  (hidden comment: QCF011030-1201)
GP CHIP RES. 1.2K OHM 1/10W 1% 0603; SAP: T502120102399; Vendor Code: 10010262; Vendor Name: 东莞市晴远电子有限公司; DIP&SMD: SMD; MFG Part: *; Power: 1/10W; MFG: *; TOL: 1%; Type: Resistor; PACKAGE: 0603; Customer Specific: N/A
footprint 0603-RW
footprint 0603-SW
pins: 1, 2

## RES0603 1/10W 1% 1.2M OHM_WALSIN
designator R?, comment value 1M2  TOL: 1%  (hidden comment: T502120402399)
CHIP 1.2M OHM  100PPM +-1% 0603 WALS L; Power: 1/10W; MFG: WALSIN; CREATE_NAME: Nathan; DIP&SMD: SMD; Vendor Code: *; SAP: T502120402399; Vendor Name: *; MFG Part: *; Type: Resistor; CREATE_TIME: 03-July-2015; PACKAGE: 0603; Customer Specific: N/A
footprint 0603-RW
footprint 0603-SW
pins: 1, 2

## RES0603 1/10W 1% 1.3 OHM_WALSIN
designator R?, comment value 1R3  (hidden comment: T502130B02399)
CHIP 1.3 OHM 100PPM +-1% 0603 WALS L; MFG Part: WW06XR820FTL; Power: 1/10W; MFG: WALSIN (華新); TOL: 1%; CREATE_NAME: Nathan; DIP&SMD: SMD; Vendor Code: *; SAP: T502130B02399; Vendor Name: *; Type: Resistor; PACKAGE: 0603; CREATE_TIME: 11-Apr-2017; Customer Specific: N/A
footprint 0603-RW
footprint 0603-SW
pins: 1, 2

## RES0603 1/10W 1% 1.3K OHM
designator R?, comment value 1.3K  (hidden comment: QCF011030-1301)
CHIP RES. 1.3K OHM 1/10W 1% 0603; Vendor Code: 10010262; SAP: T502130102399; Vendor Name: 东莞市晴远电子有限公司; DIP&SMD: SMD; Power: 1/10W; MFG Part: *; MFG: *; TOL: 1%; Type: Resistor; PACKAGE: 0603; Customer Specific: N/A
footprint 0603-RW
footprint 0603-SW
pins: 1, 2

## RES0603 1/10W 1% 1.5K OHM
designator R?, comment value 1.5K  (hidden comment: QCF011030-1501)
GP CHIP RES. 1.5K OHM 1/10W 1% 0603; Vendor Code: 10010262; SAP: T502150102399; Vendor Name: 东莞市晴远电子有限公司; DIP&SMD: SMD; Power: 1/10W; MFG Part: *; MFG: *; TOL: 1%; Type: Resistor; PACKAGE: 0603; Customer Specific: N/A
footprint 0603-RW
footprint 0603-SW
pins: 1, 2

## RES0603 1/10W 1% 1.6K OHM
designator R?, comment value 1K6  (hidden comment: T502160102399)
CHIP 1.6K OHM 100PPM +-1% 0603 WALS L; Power: 1/10W; MFG: WALSIN; TOL: 1%; CREATE_NAME: Nathan; DIP&SMD: SMD; Vendor Code: *; SAP: T502160102399; Vendor Name: *; MFG Part: *; Type: Resistor; CREATE_TIME: 30-July-2015; PACKAGE: 0603; Customer Specific: N/A
footprint 0603-RW
footprint 0603-SW
pins: 1, 2

## RES0603 1/10W 1% 1.8K OHM
designator R?, comment value 1.8K  (hidden comment: QCF011030-1801)
GP CHIP RES. 1.8K OHM 1/10W 1% 0603; Vendor Code: 10010262; SAP: T502180102399; Vendor Name: 东莞市晴远电子有限公司; DIP&SMD: SMD; Power: 1/10W; MFG Part: *; MFG: *; TOL: 1%; Type: Resistor; PACKAGE: 0603; Customer Specific: N/A
footprint 0603-RW
footprint 0603-SW
pins: 1, 2

## RES0603 1/10W 1% 1.33K OHM
designator R?, comment value 1.33K  (hidden comment: QCF011030-1331)
CHIP RES 1.33K OHM 1/10W  1% 0603; Vendor Code: 10010262; SAP: T502133102399; Vendor Name: 东莞市晴远电子有限公司; DIP&SMD: SMD; Power: 1/10W; MFG: *; MFG Part: *; TOL: 1%; Type: Resistor; PACKAGE: 0603; Customer Specific: N/A
footprint 0603-RW
footprint 0603-SW
pins: 1, 2

## RES0603 1/10W 1% 1.37K OHM_WALSIN
designator R?, comment value 1K37  (hidden comment: T502137102399)
CHIP 1.37K OHM 100PPM +-1% 0603 WALS L; Power: 1/10W; MFG: WALSIN (華新); TOL: 1%; CREATE_NAME: Nathan; DIP&SMD: SMD; Vendor Code: *; SAP: T502137102399; Vendor Name: *; MFG Part: *; Type: Resistor; PACKAGE: 0603; CREATE_TIME: 03-July-2016; Customer Specific: N/A
footprint 0603-RW
footprint 0603-SW
pins: 1, 2

## RES0603 1/10W 1% 1.65K OHM_WALSIN
designator R?, comment value 1K65  (hidden comment: T502165102399)
CHIP 1.65K OHM 100PPM +-1% 0603 WALS L; Power: 1/10W; MFG: WALSIN; TOL: 1%; CREATE_NAME: Nathan; DIP&SMD: SMD; Vendor Code: *; SAP: T502165102399; Vendor Name: *; MFG Part: *; Type: Resistor; CREATE_TIME: 03-May-2018; PACKAGE: 0603; Customer Specific: N/A
footprint 0603-RW
footprint 0603-SW
pins: 1, 2

## RES0603 1/10W 1% 1.87K OHM
designator R?, comment value 1.87K  (hidden comment: QCF011030-1871)
CHIP RES. 1.87K OHM 1/10W 1% 0603; Vendor Code: 10010262; SAP: T502187102399; Vendor Name: 东莞市晴远电子有限公司; DIP&SMD: SMD; Power: 1/10W; MFG Part: *; MFG: *; TOL: 1%; Type: Resistor; PACKAGE: 0603; Customer Specific: N/A
footprint 0603-RW
footprint 0603-SW
pins: 1, 2

## RES0603 1/10W 1% 1K OHM
designator R?, comment value 1K  (hidden comment: QCF011030-1001)
GP CHIP RES. 1K OHM 1/10W 1% 0603; Vendor Code: 10010262; SAP: T502100102399; Vendor Name: 东莞市晴远电子有限公司; DIP&SMD: SMD; Power: 1/10W; MFG: *; MFG Part: *; TOL: 1%; Type: Resistor; PACKAGE: 0603; Customer Specific: N/A
footprint 0603-RW
footprint 0603-SW
pins: 1, 2

## RES0603 1/10W 1% 1M OHM
designator R?, comment value 1M  (hidden comment: QCF011030-1004)
GP CHIP RES. 1M OHM 1/10W 1% 0603; Vendor Code: 10010262; SAP: T502100402399; Vendor Name: 东莞市晴远电子有限公司; DIP&SMD: SMD; Power: 1/10W; MFG: *; MFG Part: *; TOL: 1%; Type: Resistor; PACKAGE: 0603; Customer Specific: N/A
footprint 0603-RW
footprint 0603-SW
pins: 1, 2

## RES0603 1/10W 1% 2 OHM
designator R?, comment value 2R  (hidden comment: QCF011030-2008)
CHIP RES 2 OHM 1/10W  1% 0603; Vendor Code: 10010262; SAP: T502200B02399; Vendor Name: 东莞市晴远电子有限公司; DIP&SMD: SMD; Power: 1/10W; MFG Part: *; MFG: *; TOL: 1%; Type: Resistor; PACKAGE: 0603; Customer Specific: N/A
footprint 0603-RW
footprint 0603-SW
pins: 1, 2

## RES0603 1/10W 1% 2.1K OHM
designator R?, comment value 2.1K  (hidden comment: QCF011030-2101)
CHIP RES 2.1K OHM 1/10W  1% 0603; Vendor Code: 10010262; SAP: T502210102399; Vendor Name: 东莞市晴远电子有限公司; DIP&SMD: SMD; Power: 1/10W; MFG Part: *; MFG: *; TOL: 1%; Type: Resistor; PACKAGE: 0603; Customer Specific: N/A
footprint 0603-RW
footprint 0603-SW
pins: 1, 2

## RES0603 1/10W 1% 2.2 OHM
designator R?, comment value 2.2R  (hidden comment: QCF011030-2208)
CHIP RES. 2.2 OHM 1/10W 1% 0603; Vendor Code: 10010262; SAP: T502220B02399; Vendor Name: 东莞市晴远电子有限公司; DIP&SMD: SMD; Power: 1/10W; MFG Part: *; MFG: *; TOL: 1%; Type: Resistor; PACKAGE: 0603; Customer Specific: N/A
footprint 0603-RW
footprint 0603-SW
pins: 1, 2

## RES0603 1/10W 1% 2.2K OHM
designator R?, comment value 2.2K  (hidden comment: QCF011030-2201)
GP CHIP RES. 2.2K OHM 1/10W 1% 0603; Vendor Code: 10010262; SAP: T502220102399; Vendor Name: 东莞市晴远电子有限公司; DIP&SMD: SMD; Power: 1/10W; MFG Part: *; MFG: *; TOL: 1%; Type: Resistor; PACKAGE: 0603; Customer Specific: N/A
footprint 0603-RW
footprint 0603-SW
pins: 1, 2

## RES0603 1/10W 1% 2.2M OHM
designator R?, comment value 2.2M  (hidden comment: QCF011030-2204)
GP CHIP RES. 2.2M OHM 1/10W 1% 0603; Vendor Code: 10010262; SAP: T502220402399; Vendor Name: 东莞市晴远电子有限公司; DIP&SMD: SMD; Power: 1/10W; MFG Part: *; MFG: *; TOL: 1%; Type: Resistor; PACKAGE: 0603; Customer Specific: N/A
footprint 0603-RW
footprint 0603-SW
pins: 1, 2

## RES0603 1/10W 1% 2.4K OHM
designator R?, comment value 2.4K  (hidden comment: QCF011030-2401)
GP CHIP RES. 2.4K OHM 1/10W 1% 0603; Vendor Code: 10010262; SAP: T502240102399; Vendor Name: 东莞市晴远电子有限公司; DIP&SMD: SMD; Power: 1/10W; MFG Part: *; MFG: *; TOL: 1%; Type: Resistor; PACKAGE: 0603; Customer Specific: N/A
footprint 0603-RW
footprint 0603-SW
pins: 1, 2

## RES0603 1/10W 1% 2.7 OHM_WALSIN
designator R?, comment value 2R7  TOL: 1%  (hidden comment: T502027A02399)
CHIP 2.7 OHM 100PPM +-1% 0603 WALS L; Power: 1/10W; MFG: WALSIN (華新); CREATE_NAME: Nathan; DIP&SMD: SMD; Vendor Code: *; SAP: T502027A02399; Vendor Name: *; MFG Part: *; Type: Resistor; CREATE_TIME: 03-July-2016; PACKAGE: 0603; Customer Specific: N/A
footprint 0603-RW
footprint 0603-SW
pins: 1, 2

## RES0603 1/10W 1% 2.7K OHM
designator R?, comment value 2.7K  (hidden comment: QCF011030-2701)
CHIP RES 2.7K OHM 1/10W 1% 0603; Vendor Code: 10010262; SAP: T502270102399; Vendor Name: 东莞市晴远电子有限公司; DIP&SMD: SMD; Power: 1/10W; MFG Part: *; MFG: *; TOL: 1%; Type: Resistor; PACKAGE: 0603; Customer Specific: N/A
footprint 0603-RW
footprint 0603-SW
pins: 1, 2

## RES0603 1/10W 1% 2.21KOHM
designator R?, comment value 2.21K  (hidden comment: T502221102399)
CHIP 2.21K OHM 100PPM +-1% 0603 WALS L; Power: 1/10W; TOL: 1%; CREATE_NAME: Tom; DIP&SMD: SMD; Vendor Code: *; SAP: T502221102399; Vendor Name: *; MFG: *; MFG Part: *; Type: Resistor; CREATE_TIME: 10-Sep-2015; PACKAGE: 0603; Customer Specific: N/A
footprint 0603-RW
footprint 0603-SW
pins: 1, 2

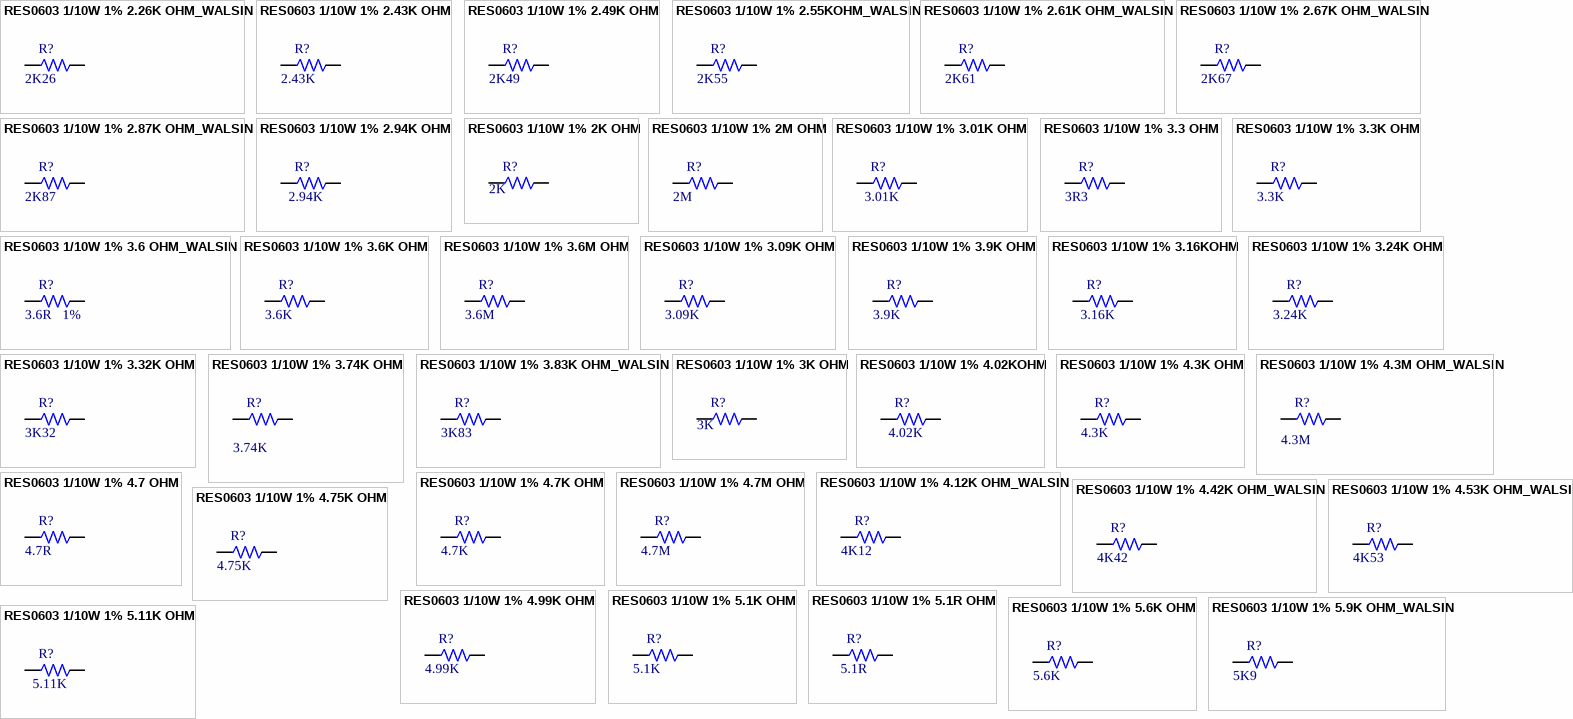
[diagram p12: symbols RES0603 1/10W 1% 2.26K OHM_WALSIN to RES0603 1/10W 1% 5.11K OHM]

## RES0603 1/10W 1% 2.26K OHM_WALSIN
designator R?, comment value 2K26  (hidden comment: T502226102399)
CHIP 2.26K OHM 100PPM +-1% 0603 WALS L; Power: 1/10W; MFG: WALSIN (華新); TOL: 1%; CREATE_NAME: Nathan; DIP&SMD: SMD; Vendor Code: *; SAP: T502226102399; Vendor Name: *; MFG Part: *; Type: Resistor; PACKAGE: 0603; CREATE_TIME: 03-July-2016; Customer Specific: N/A
footprint 0603-RW
footprint 0603-SW
pins: 1, 2

## RES0603 1/10W 1% 2.43K OHM
designator R?, comment value 2.43K  (hidden comment: QCF011030-2431)
CHIP RES 2.43K OHM 1/10W 1% 0603; Vendor Code: 10010262; SAP: T502243102399; Vendor Name: 东莞市晴远电子有限公司; DIP&SMD: SMD; Power: 1/10W; MFG Part: *; MFG: *; TOL: 1%; Type: Resistor; PACKAGE: 0603; Customer Specific: N/A
footprint 0603-RW
footprint 0603-SW
pins: 1, 2

## RES0603 1/10W 1% 2.49K OHM
designator R?, comment value 2K49  (hidden comment: QCF011030-2491)
CHIP RES 2.49K OHM 1% 1/10W 0603; Vendor Code: 10010262; SAP: T502249102399; Vendor Name: 东莞市晴远电子有限公司; CREATE_NAME: Nathan; DIP&SMD: SMD; Power: 1/10W; MFG Part: *; MFG: *; TOL: 1%; Type: Resistor; PACKAGE: 0603; CREATE_TIME: 31-May-2015; Customer Specific: N/A
footprint 0603-RW
footprint 0603-SW
pins: 1, 2

## RES0603 1/10W 1% 2.55KOHM_WALSIN
designator R?, comment value 2K55  (hidden comment: T502255102399)
CHIP 2.55K OHM 100PPM +-1% 0603 WALS L; Power: 1/10W; MFG: WALSIN (華新); TOL: 1%; CREATE_NAME: Nathan; DIP&SMD: SMD; Vendor Code: *; SAP: T502255102399; Vendor Name: *; MFG Part: *; Type: Resistor; PACKAGE: 0603; CREATE_TIME: 03-July-2016; Customer Specific: N/A
footprint 0603-RW
footprint 0603-SW
pins: 1, 2

## RES0603 1/10W 1% 2.61K OHM_WALSIN
designator R?, comment value 2K61  (hidden comment: T502261102399)
CHIP 2.61K OHM 100PPM +-1% 0603 WALS L; Power: 1/10W; MFG: WALSIN (華新); TOL: 1%; CREATE_NAME: Nathan; DIP&SMD: SMD; Vendor Code: *; SAP: T502261102399; Vendor Name: *; MFG Part: *; Type: Resistor; PACKAGE: 0603; CREATE_TIME: 03-July-2016; Customer Specific: N/A
footprint 0603-RW
footprint 0603-SW
pins: 1, 2

## RES0603 1/10W 1% 2.67K OHM_WALSIN
designator R?, comment value 2K67  (hidden comment: T502267102399)
CHIP 2.67K OHM 100PPM +-1% 0603 WALS L; Power: 1/10W; MFG: WALSIN (華新); TOL: 1%; CREATE_NAME: Nathan; DIP&SMD: SMD; Vendor Code: *; SAP: T502267102399; Vendor Name: *; MFG Part: *; Type: Resistor; PACKAGE: 0603; CREATE_TIME: 03-July-2016; Customer Specific: N/A
footprint 0603-RW
footprint 0603-SW
pins: 1, 2

## RES0603 1/10W 1% 2.87K OHM_WALSIN
designator R?, comment value 2K87  (hidden comment: T502287102399)
CHIP 2.87K OHM 100PPM +-1% 0603 WALS L; Power: 1/10W; MFG: WALSIN (華新); TOL: 1%; CREATE_NAME: Nathan; DIP&SMD: SMD; Vendor Code: *; SAP: T502287102399; Vendor Name: *; MFG Part: *; Type: Resistor; PACKAGE: 0603; CREATE_TIME: 03-July-2016; Customer Specific: N/A
footprint 0603-RW
footprint 0603-SW
pins: 1, 2

## RES0603 1/10W 1% 2.94K OHM
designator R?, comment value 2.94K  (hidden comment: T502294102399)
CHIP 2.94K OHM 100PPM +-1% 0603 WALS L; Power: 1/10W; TOL: 1%; CREATE_NAME: Tom; DIP&SMD: SMD; Vendor Code: *; SAP: T502294102399; Vendor Name: *; MFG: *; MFG Part: *; Type: Resistor; CREATE_TIME: 10-Sep-2015; PACKAGE: 0603; Customer Specific: N/A
footprint 0603-RW
footprint 0603-SW
pins: 1, 2

## RES0603 1/10W 1% 2K OHM
designator R?, comment value 2K  (hidden comment: QCF011030-2001)
GP CHIP RES. 2K OHM 1/10W 1% 0603; Vendor Code: 10010262; SAP: T502200102399; Vendor Name: 东莞市晴远电子有限公司; DIP&SMD: SMD; Power: 1/10W; MFG Part: *; MFG: *; TOL: 1%; Type: Resistor; PACKAGE: 0603; Customer Specific: N/A
footprint 0603-RW
footprint 0603-SW
pins: 1, 2

## RES0603 1/10W 1% 2M OHM
designator R?, comment value 2M  (hidden comment: T502200402399)
CHIP 2M OHM 100PPM +-1% 0603 WALS L; Power: 1/10W; MFG: WALSIN; TOL: 1%; CREATE_NAME: Tom; DIP&SMD: SMD; MFG Part: *; SAP: T502200402399; Vendor Code: *; Vendor Name: *; Type: Resistor; PACKAGE: 0603; CREATE_TIME: 04-Jan-2016; Customer Specific: N/A
footprint 0603-RW
footprint 0603-SW
pins: 1, 2

## RES0603 1/10W 1% 3.01K OHM
designator R?, comment value 3.01K  (hidden comment: QCF011030-3011)
CHIP RES 3.01K OHM 1% 1/10W  0603; SAP: T502301102399; CREATE_NAME: TOM@Deftronics; DIP&SMD: SMD; Vendor Code: *; Power: 1/10W; Vendor Name: *; MFG: *; MFG Part: *; TOL: 1%; Type: Resistor; CREATE_TIME: 21-Nov-2013; PACKAGE: 0603; Customer Specific: N/A
footprint 0603-RW
footprint 0603-SW
pins: 1, 2

## RES0603 1/10W 1% 3.3 OHM
designator R?, comment value 3R3  (hidden comment: QCF011031-3308)
CHIP RES 3.3 OHM 1/10W 1% 0603; Vendor Code: 10010262; SAP: T502330B02399; Vendor Name: 东莞市晴远电子有限公司; DIP&SMD: SMD; Power: 1/10W; MFG Part: *; MFG: *; TOL: 1%; Type: Resistor; PACKAGE: 0603; Customer Specific: N/A
footprint 0603-RW
footprint 0603-SW
pins: 1, 2

## RES0603 1/10W 1% 3.3K OHM
designator R?, comment value 3.3K  (hidden comment: QCF011030-3301)
GP CHIP RES. 3.3K OHM 1/10W 1% 0603; Vendor Code: 10010262; SAP: T502330102399; Vendor Name: 东莞市晴远电子有限公司; DIP&SMD: SMD; Power: 1/10W; MFG Part: *; MFG: *; TOL: 1%; Type: Resistor; PACKAGE: 0603; Customer Specific: N/A
footprint 0603-RW
footprint 0603-SW
pins: 1, 2

## RES0603 1/10W 1% 3.6 OHM_WALSIN
designator R?, comment value 3.6R  TOL: 1%  (hidden comment: T502360B023B9)
CHIP 3.6 OHM 400PPM +-1% 0603 WALS L; Power: 1/10W; MFG: WALSIN; CREATE_NAME: Tom; DIP&SMD: SMD; Vendor Code: *; SAP: T502360B023B9; Vendor Name: *; MFG Part: *; Type: Resistor; CREATE_TIME: 02-Aug-2019; PACKAGE: 0603; Customer Specific: N/A
footprint 0603-RW
footprint 0603-SW
pins: 1, 2

## RES0603 1/10W 1% 3.6K OHM
designator R?, comment value 3.6K  (hidden comment: QCF011030-3601)
GP CHIP RES. 3.6K OHM 1/10W 1% 0603; Vendor Code: 10010262; SAP: T502360102399; Vendor Name: 东莞市晴远电子有限公司; DIP&SMD: SMD; Power: 1/10W; MFG: *; MFG Part: *; TOL: 1%; Type: Resistor; PACKAGE: 0603; Customer Specific: N/A
footprint 0603-RW
footprint 0603-SW
pins: 1, 2

## RES0603 1/10W 1% 3.6M OHM
designator R?, comment value 3.6M  (hidden comment: QCF011030-3604)
CHIP RES. 3.6M OHM 1/10W 1% 0603; Vendor Code: 10010262; SAP: T502360402399; Vendor Name: 东莞市晴远电子有限公司; DIP&SMD: SMD; Power: 1/10W; MFG Part: *; MFG: *; TOL: 1%; Type: Resistor; PACKAGE: 0603; Customer Specific: N/A
footprint 0603-RW
footprint 0603-SW
pins: 1, 2

## RES0603 1/10W 1% 3.09K OHM
designator R?, comment value 3.09K  (hidden comment: QCF011030-3091)
CHIP RES. 3.09K OHM 1/10W 1% 0603; Vendor Code: 10010262; SAP: T502309102399; Vendor Name: 东莞市晴远电子有限公司; DIP&SMD: SMD; Power: 1/10W; MFG Part: *; MFG: *; TOL: 1%; Type: Resistor; PACKAGE: 0603; Customer Specific: N/A
footprint 0603-RW
footprint 0603-SW
pins: 1, 2

## RES0603 1/10W 1% 3.9K OHM
designator R?, comment value 3.9K  (hidden comment: QCF011030-3901)
CHIP RES. 3.9K OHM 1/10W 1% 0603; Vendor Code: 10010262; SAP: T502390102399; Vendor Name: 东莞市晴远电子有限公司; DIP&SMD: SMD; Power: 1/10W; MFG Part: *; MFG: *; TOL: 1%; Type: Resistor; PACKAGE: 0603; Customer Specific: N/A
footprint 0603-RW
footprint 0603-SW
pins: 1, 2

## RES0603 1/10W 1% 3.16KOHM
designator R?, comment value 3.16K  (hidden comment: T502316102399)
CHIP 3.16K OHM 100PPM +-1% 0603 WALS L; Power: 1/10W; TOL: 1%; CREATE_NAME: Tom; DIP&SMD: SMD; Vendor Code: *; SAP: T502316102399; Vendor Name: *; MFG: *; MFG Part: *; Type: Resistor; CREATE_TIME: 14-Sep-2015; PACKAGE: 0603; Customer Specific: N/A
footprint 0603-RW
footprint 0603-SW
pins: 1, 2

## RES0603 1/10W 1% 3.24K OHM
designator R?, comment value 3.24K  (hidden comment: QCF011030-3241)
CHIP RES 3.24K OHM 1/10W 1% 0603; Vendor Code: 10010262; SAP: T502324102399; Vendor Name: 东莞市晴远电子有限公司; DIP&SMD: SMD; Power: 1/10W; MFG Part: *; MFG: *; TOL: 1%; Type: Resistor; PACKAGE: 0603; Customer Specific: N/A
footprint 0603-RW
footprint 0603-SW
pins: 1, 2

## RES0603 1/10W 1% 3.32K OHM
designator R?, comment value 3K32  (hidden comment: QCF011030-3321)
CHIP RES 3.32K OHM 1% 1/10W 0603; Vendor Code: 10010262; SAP: T502332102399; Vendor Name: 东莞市晴远电子有限公司; MFG: WALSIN (華新); CREATE_NAME: Nathan; DIP&SMD: SMD; Power: 1/10W; MFG Part: *; TOL: 1%; Type: Resistor; CREATE_TIME: 27-NOV-2014; PACKAGE: 0603; Customer Specific: N/A
footprint 0603-RW
footprint 0603-SW
pins: 1, 2

## RES0603 1/10W 1% 3.74K OHM
designator R?, comment value 3.74K  (hidden comment: QCF011030-3741)
CHIP RES 3.74K OHM 1% 1/10W 0603; SAP: T502374102399; CREATE_NAME: Tom; DIP&SMD: SMD; TOL: 1%; MFG Part: *; MFG: *; Vendor Code: *; Vendor Name: *; Type: Resistor; CREATE_TIME: 14-Apr-2015; Power: 1/10W; Package: 0603; Customer Specific: N/A
footprint 0603-RW
pins: 1, 2

## RES0603 1/10W 1% 3.83K OHM_WALSIN
designator R?, comment value 3K83  (hidden comment: T502383102399)
CHIP 3.83K OHM 100PPM +-1% 0603 WALS L; Power: 1/10W; MFG: WALSIN (華新); TOL: 1%; CREATE_NAME: Nathan; DIP&SMD: SMD; Vendor Code: *; SAP: T502383102399; Vendor Name: *; MFG Part: *; Type: Resistor; PACKAGE: 0603; CREATE_TIME: 03-July-2016; Customer Specific: N/A
footprint 0603-RW
footprint 0603-SW
pins: 1, 2

## RES0603 1/10W 1% 3K OHM
designator R?, comment value 3K  (hidden comment: QCF011030-3001)
CHIP RES 3K OHM 1/10W 1% 0603; Vendor Code: 10010262; SAP: T502300102399; Vendor Name: 东莞市晴远电子有限公司; DIP&SMD: SMD; Power: 1/10W; MFG Part: *; MFG: *; TOL: 1%; Type: Resistor; PACKAGE: 0603; Customer Specific: N/A
footprint 0603-RW
footprint 0603-SW
pins: 1, 2

## RES0603 1/10W 1% 4.02KOHM
designator R?, comment value 4.02K  (hidden comment: T502402102399)
CHIP 4.02K OHM 100PPM +-1% 0603 WALS L; Power: 1/10W; TOL: 1%; CREATE_NAME: Tom; DIP&SMD: SMD; Vendor Code: *; SAP: T502402102399; Vendor Name: *; MFG: *; MFG Part: *; Type: Resistor; CREATE_TIME: 14-Sep-2015; PACKAGE: 0603; Customer Specific: N/A
footprint 0603-RW
footprint 0603-SW
pins: 1, 2

## RES0603 1/10W 1% 4.3K OHM
designator R?, comment value 4.3K  (hidden comment: QCF011030-4301)
GP CHIP RES. 4.3K OHM 1/10W 1% 0603; Vendor Code: 10010262; SAP: T502430102399; Vendor Name: 东莞市晴远电子有限公司; DIP&SMD: SMD; Power: 1/10W; MFG Part: *; MFG: *; TOL: 1%; Type: Resistor; PACKAGE: 0603; Customer Specific: N/A
footprint 0603-RW
footprint 0603-SW
pins: 1, 2

## RES0603 1/10W 1% 4.3M OHM_WALSIN
designator R?, comment value 4.3M  (hidden comment: T502430402399)
CHIP 4.3M OHM 100PPM +-1% 0603 WALS L; Power: 1/10W; MFG: WALSIN (華新); TOL: 1%; CREATE_NAME: Nathan; DIP&SMD: SMD; Vendor Code: *; SAP: T502430402399; Vendor Name: *; MFG Part: *; Type: Resistor; CREATE_TIME: 15-Nov-2018; PACKAGE: 0603; Customer Specific: N/A
footprint 0603-RW
footprint 0603-SW
pins: 1, 2

## RES0603 1/10W 1% 4.7 OHM
designator R?, comment value 4.7R  (hidden comment: QCF011030-4708)
CHIP RES. 4.7 OHM 1/10W 1% 0603; Vendor Code: 10010262; SAP: T502470B02399; Vendor Name: 东莞市晴远电子有限公司; DIP&SMD: SMD; Power: 1/10W; MFG Part: *; MFG: *; TOL: 1%; Type: Resistor; PACKAGE: 0603; Customer Specific: N/A
footprint 0603-RW
footprint 0603-SW
pins: 1, 2

## RES0603 1/10W 1% 4.7K OHM
designator R?, comment value 4.7K  (hidden comment: QCF011030-4701)
GP CHIP RES. 4.7K OHM 1/10W 1% 0603; Vendor Code: 10010262; SAP: T502470102399; Vendor Name: 东莞市晴远电子有限公司; DIP&SMD: SMD; Power: 1/10W; MFG Part: *; MFG: *; TOL: 1%; Type: Resistor; PACKAGE: 0603; Customer Specific: N/A
footprint 0603-RW
footprint 0603-SW
pins: 1, 2

## RES0603 1/10W 1% 4.7M OHM
designator R?, comment value 4.7M  (hidden comment: QCF011030-4704)
CHIP RES 4.7M OHM 1/10W 1% 0603; Vendor Code: 10010262; SAP: T502470402399; Vendor Name: 东莞市晴远电子有限公司; DIP&SMD: SMD; Power: 1/10W; MFG Part: *; MFG: *; TOL: 1%; Type: Resistor; PACKAGE: 0603; Customer Specific: N/A
footprint 0603-RW
footprint 0603-SW
pins: 1, 2

## RES0603 1/10W 1% 4.12K OHM_WALSIN
designator R?, comment value 4K12  (hidden comment: T502412102399)
CHIP 4.12K OHM 100PPM +-1% 0603 WALS L; Power: 1/10W; MFG: WALSIN (華新); TOL: 1%; CREATE_NAME: Nathan; DIP&SMD: SMD; Vendor Code: *; SAP: T502412102399; Vendor Name: *; MFG Part: *; Type: Resistor; PACKAGE: 0603; CREATE_TIME: 03-July-2016; Customer Specific: N/A
footprint 0603-RW
footprint 0603-SW
pins: 1, 2

## RES0603 1/10W 1% 4.42K OHM_WALSIN
designator R?, comment value 4K42  (hidden comment: T502442102399)
CHIP 4.42K OHM 100PPM +-1% 0603 WALS L; Power: 1/10W; MFG: WALSIN (華新); TOL: 1%; CREATE_NAME: Nathan; DIP&SMD: SMD; Vendor Code: *; SAP: T502442102399; Vendor Name: *; MFG Part: *; Type: Resistor; PACKAGE: 0603; CREATE_TIME: 03-July-2016; Customer Specific: N/A
footprint 0603-RW
footprint 0603-SW
pins: 1, 2

## RES0603 1/10W 1% 4.53K OHM_WALSIN
designator R?, comment value 4K53  (hidden comment: T502453102399)
CHIP 4.53K OHM 100PPM +-1% 0603 WALS L; Power: 1/10W; MFG: WALSIN (華新); TOL: 1%; CREATE_NAME: Nathan; DIP&SMD: SMD; Vendor Code: *; SAP: T502453102399; Vendor Name: *; MFG Part: *; Type: Resistor; PACKAGE: 0603; CREATE_TIME: 03-July-2016; Customer Specific: N/A
footprint 0603-RW
footprint 0603-SW
pins: 1, 2

## RES0603 1/10W 1% 4.75K OHM
designator R?, comment value 4.75K  (hidden comment: QCF011030-4751)
GP CHIP RES. 4.75K  OHM 1/10W 1% 0603; Vendor Code: 10010262; SAP: T502475102399; Vendor Name: 东莞市晴远电子有限公司; DIP&SMD: SMD; Power: 1/10W; MFG Part: *; MFG: *; TOL: 1%; Type: Resistor; PACKAGE: 0603; Customer Specific: N/A
footprint 0603-RW
footprint 0603-SW
pins: 1, 2